# Altium schematic symbol library Cap1206.SchLib: 1 symbol
Pins are listed as number, name and electrical type; pins without a type are passive.

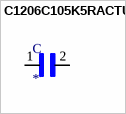
[diagram p0: symbol C1206C105K5RACTU]

## C1206C105K5RACTU
designator C
1ÂµF Â±10% 50V Ceramic Capacitor X7R 1206 _3216 Metric_; MP: C1206C105K5RACTU; MF: KEMET; Value: *; Package: 3216 KEMET; SnapEDA_Link: https://www.snapeda.com/parts/C1206C105K5RACTU/KEMET/view-part/357507/?ref=snap; Digi-Key_Part_Number: 399-8147-1-ND; Digi-Key_Purchase_URL: https://www.digikey.com/product-detail/en/kemet/C1206C105K5RACTU/399-8147-1-ND/3471870?utm_source=snapeda&utm_medium=aggregator&utm_campaign=symbol
footprint CAPC3216X110N
pins: 1, 2